# Altium footprint library Fedor's_pcb.PcbLib: 174 footprints (part 13 of 14)
Each footprint in its own frame and in the unit in brackets; x right, y up, seen from the top. Pads: shape width x height; smd on the part's side, far side on the other; paste and mask are expansions set on the pad; w line width, h text height; cw(c..) or ccw(c..) is an arc to the next point about the centre after c.
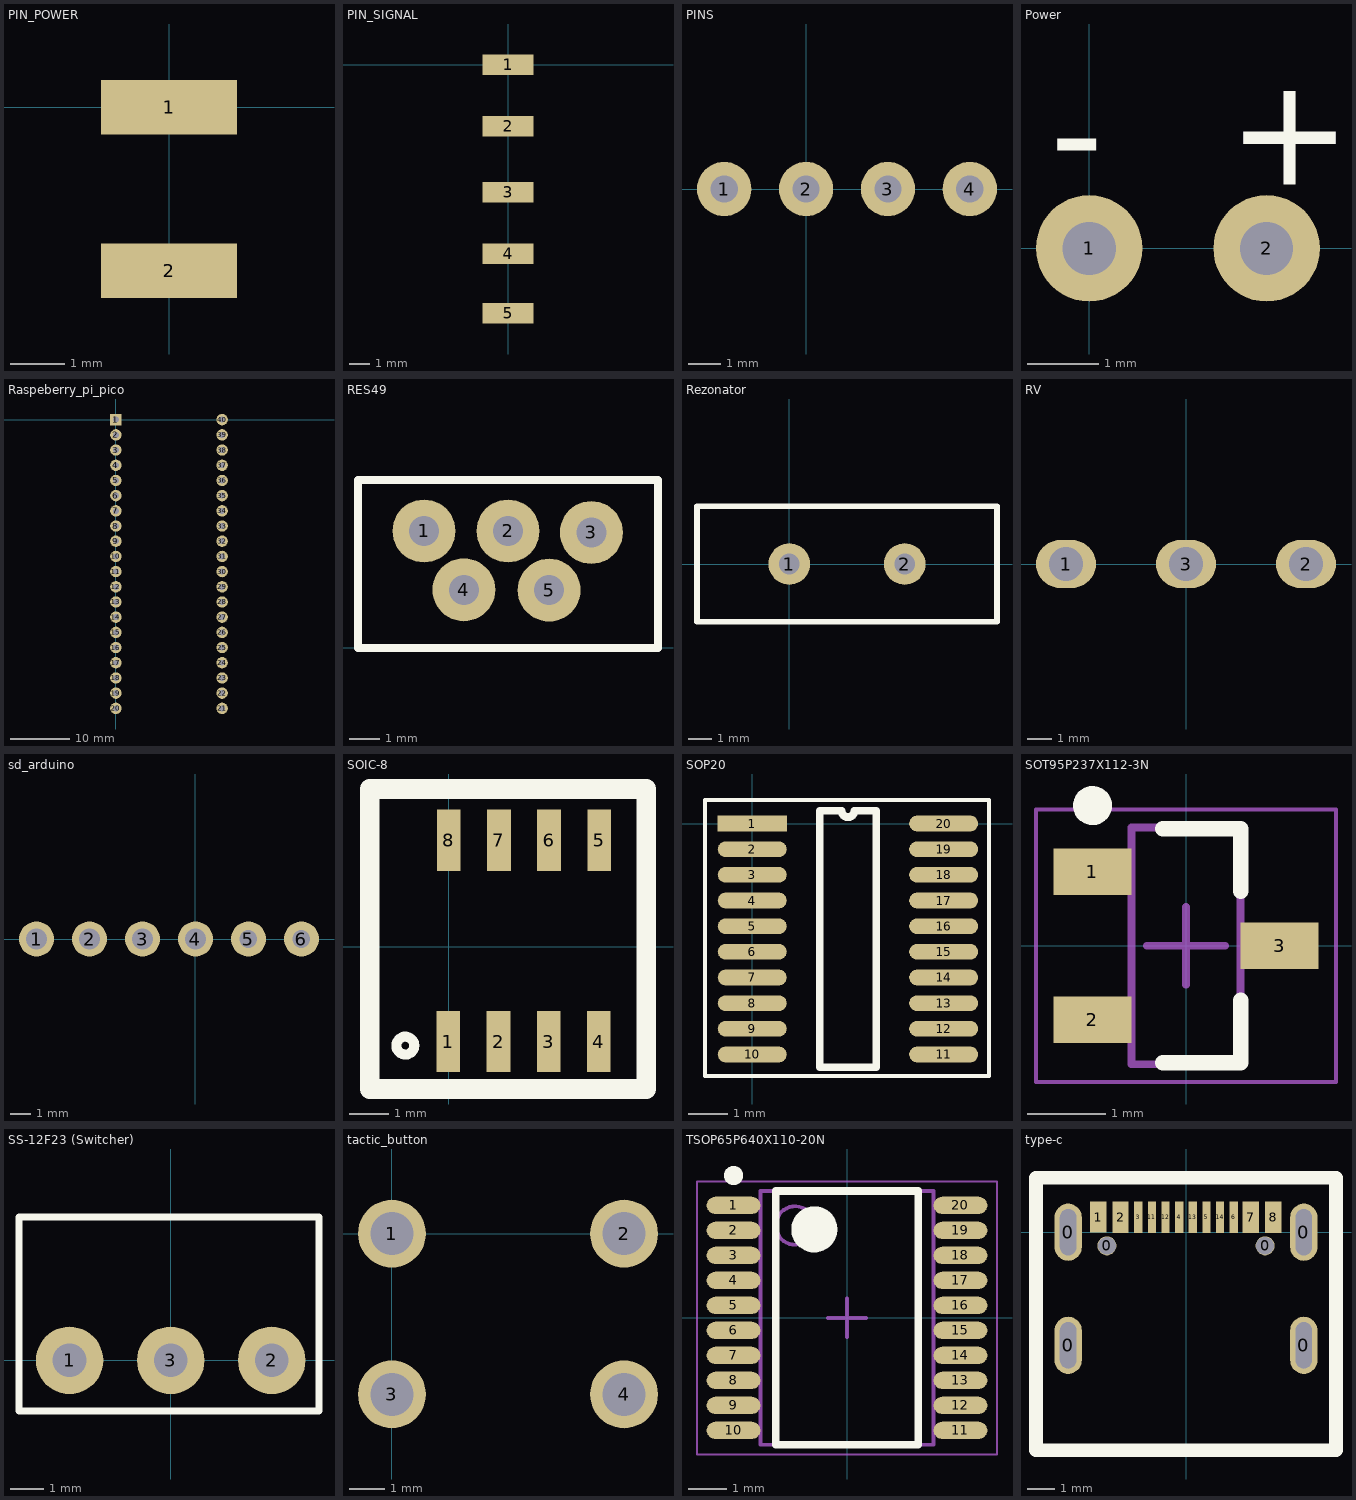
[diagram p12: the footprints below, top view; thin cyan lines are the x and y axes]

## PIN_POWER [mm]
pads (2):
  rect 2.5x1 smd mask+0.05: 1(0,0) 2(0,-3)

## PIN_SIGNAL [mm]
pads (5):
  rect 2.5x1 smd mask+0.05: 1(0,0) 2(0,-3) 3(0,-6.2) 4(0,-9.2) 5(0,-12.1)

## PINS [mm]
pads (4):
  round 1.66 hole 0.83: 1(-2.5,0) 2(0,0) 3(2.5,0) 4(5,0)
3D body "POWER.stp": height 6.9, standoff -2.6, extent -3.75,-1.25 1.25,1.25
3D body "POWER.stp": height 6.9, standoff -2.6, extent 1.25,-1.25 6.25,1.25

## Power [mm]
pads (2):
  round 1.5 hole 0.75: 1(0,0) 2(2.5,0)
Top Overlay:
  text "-" at -0.546,0.892 h1.52
  text "+" at 1.954,0.9 h1.52

## Raspeberry_pi_pico [mm]
pads (40):
  rect 1.9x1.9 hole 1 mask+0.09: 1(0,0)
  round 1.9 hole 1 mask+0.09: 2(0,-2.54) 3(0,-5.08) 4(0,-7.62) 5(0,-10.16) 6(0,-12.7) 7(0,-15.24) 8(0,-17.78) 9(0,-20.32) 10(0,-22.86) 11(0,-25.4) 12(0,-27.94) 13(0,-30.48) 14(0,-33.02) 15(0,-35.56) 16(0,-38.1) 17(0,-40.64) 18(0,-43.18) 19(0,-45.72) 20(0,-48.26) 21(17.78,-48.26) 22(17.78,-45.72) 23(17.78,-43.18) 24(17.78,-40.64) 25(17.78,-38.1) 26(17.78,-35.56) 27(17.78,-33.02) 28(17.78,-30.48) 29(17.78,-27.94) 30(17.78,-25.4) 31(17.78,-22.86) 32(17.78,-20.32) 33(17.78,-17.78) 34(17.78,-15.24) 35(17.78,-12.7) 36(17.78,-10.16) 37(17.78,-7.62) 38(17.78,-5.08) 39(17.78,-2.54) 40(17.78,0)

## RES49 [mm]
pads (5):
  round 2.1 hole 1: 1(3.2,3.9) 2(6,3.9) 3(8.78,3.85) 4(4.53,1.94) 5(7.37,1.93)
Top Overlay:
  lines w0.254: 1,0 11,0 11,5.6 1,5.6 1,0
3D body "RES49.stp": height 16.4, standoff -2.5, extent 0.8,0.35 11.2,5.65

## Rezonator [mm]
pads (2):
  round 1.8 hole 0.9: 1(0,0) 2(5,0)
Top Overlay:
  lines w0.254: -4,-2.5 -4,2.5 9,2.5 9,0.5 9,-2.5 6,-2.5 -1,-2.5 -1.25,-2.5 -4,-2.5
3D body "REZONATOR.stp": height 14.5, standoff -2.5, extent -3.25,-2.65 8.25,2.65

## RV [mm]
pads (3):
  oval 2.5x2 hole 1.4: 1(-5,0) 2(5,0) 3(0,0)

## sd_arduino [mm]
pads (6):
  round 1.68 hole 1: 1(-7.62,0) 2(-5.08,0) 3(-2.54,0) 4(0,0)
  round 1.68 hole 0.84: 5(2.54,0) 6(5.08,0)

## SOIC-8 [mm]
pads (8):
  rect 0.6x1.55 smd mask+0.07: 1(-0.01,-2.4) 2(1.26,-2.4) 3(2.53,-2.4) 4(3.8,-2.4) 5(3.81,2.7) 6(2.54,2.7) 7(1.27,2.7) 8(0,2.7)
Top Overlay:
  circle w0.254: c-1.1,-2.5 r0.226
  lines w0.5: -2,-3.6 -2,4 5,4 5,-3.6 -2,-3.6
3D body "BQ2057CSNTR.step": height 1.75, standoff 0, extent -0.55,-2.9 4.35,3.1

## SOP20 [mm]
pads (20):
  rect 1.75x0.4 smd: 1(0,0)
  oval 1.75x0.4 smd: 2(0,-0.65) 3(0,-1.3) 4(0,-1.95) 5(0,-2.6) 6(0,-3.25) 7(0,-3.9) 8(0,-4.55) 9(0,-5.2) 10(0,-5.85) 11(4.85,-5.85) 12(4.85,-5.2) 13(4.85,-4.55) 14(4.85,-3.9) 15(4.85,-3.25) 16(4.85,-2.6) 17(4.85,-1.95) 18(4.85,-1.3) 19(4.85,-0.65) 20(4.85,0)
Top Overlay:
  lines w0.1: -1.2,-6.4 -1.2,0.6 6,0.6 6,-6.4 -1.2,-6.4
  lines w0.2: 1.71,-6.175 3.14,-6.175 3.14,0.325 2.587,0.325 cw(c2.425,0.325) 2.262,0.325 1.71,0.325 1.71,-6.175

## SOT95P237X112-3N [mm] "SOT23, 3-Leads, Body 2,92x2,37mm, Pitch 0,95mm, IPC Medium Density"
height 1.12
pads (3):
  rect 1x0.6 smd: 1(-1.2,0.95) 2(-1.2,-0.95) 3(1.2,0)
Top Overlay:
  circle w0.25: c-1.2,1.8 r0.125
  lines w0.2: -0.3,-1.5 0.7,-1.5 0.7,-0.7 ; -0.3,1.5 0.7,1.5 0.7,0.7
Mechanical 13:
  lines w0.1: -0.7,-1.52 -0.7,1.52 0.7,1.52 0.7,-1.52 -0.7,-1.52
Mechanical 15:
  lines w0.05: -1.925,-1.75 -1.925,1.75 1.925,1.75 1.925,-1.75 -1.925,-1.75
  lines w0.1: -0.5,0 0.5,0 ; 0,-0.5 0,0.5
3D body "SOT95P237X112-3N.step": height 1.12, standoff 0, extent -1.32,-1.52 1.32,1.52

## SS-12F23 (Switcher) [mm] "Переключатель движковый, 13x 6.0h7, контакты 3P+2P(GND), 0.5А, 50В, SPDT, угловой"
pads (3):
  round 2 hole 1: 1(-3,0) 2(3,0) 3(0,0)
Top Overlay:
  lines w0.2: -4.5,-1.5 4.4,-1.5 4.4,4.25 -4.5,4.25 -4.5,-1.5

## tactic_button [mm]
pads (4):
  round 1.9 hole 1.2 mask+0.09: 1(0,0) 2(6.5,0) 3(0,-4.5) 4(6.5,-4.5)

## TSOP65P640X110-20N [mm] "TSOP, 20-Leads, Body 6,50x4,40mm, Pitch 0,65mm, IPC Medium Density"
height 1.1
pads (20):
  oval 1.4x0.45 smd: 1(-2.95,2.925) 2(-2.95,2.275) 3(-2.95,1.625) 4(-2.95,0.975) 5(-2.95,0.325) 6(-2.95,-0.325) 7(-2.95,-0.975) 8(-2.95,-1.625) 9(-2.95,-2.275) 10(-2.95,-2.925) 11(2.95,-2.925) 12(2.95,-2.275) 13(2.95,-1.625) 14(2.95,-0.975) 15(2.95,-0.325) 16(2.95,0.325) 17(2.95,0.975) 18(2.95,1.625) 19(2.95,2.275) 20(2.95,2.925)
Top Overlay:
  circle w0.25: c-2.95,3.7 r0.125
  circle w0.6: c-0.85,2.3 r0.3
  lines w0.2: -1.85,-3.3 -1.85,3.3 1.85,3.3 1.85,-3.3 -1.85,-3.3
Mechanical 13:
  circle w0.1: c-1.35,2.4 r0.5
  lines w0.1: -2.25,-3.3 -2.25,3.3 2.25,3.3 2.25,-3.3 -2.25,-3.3
Mechanical 15:
  lines w0.05: -3.9,-3.55 -3.9,3.55 3.9,3.55 3.9,-3.55 -3.9,-3.55
  lines w0.1: -0.5,0 0.5,0 ; 0,-0.5 0,0.5
3D body "TSOP65P640X110-20N.step": height 1.1, standoff 0, extent -3.2,-3.3 3.2,3.3

## type-c [mm] "16-pin"
pads (18):
  oval 1x2.1 hole 0.6 slot 1.7 at 90 deg mask+0.05: 0(-4.32,-4.15) 0(-4.32,0) 0(4.32,-4.15) 0(4.32,0)
  round 0.7 hole 0.65 mask+0.04: 0(-2.9,-0.5) 0(2.9,-0.5)
  rect 0.6x1.15 smd mask+0.05: 1(-3.217,0.556) 2(-2.399,0.553) 7(2.381,0.542) 8(3.203,0.544)
  rect 0.3x1.15 smd mask+0.05: 3(-1.75,0.55) 4(-0.25,0.55) 5(0.75,0.55) 6(1.75,0.55) 11(-1.25,0.55) 12(-0.75,0.55) 13(0.25,0.55) 14(1.25,0.55)
Top Overlay:
  lines w0.5: -5.5,-8 -5.5,-4 -5.5,2 5.5,2 5.5,-8 -5.5,-8
3D body "xb-acf008-1r.stp": height 3.03, standoff -0.13, extent -5.87,-7.2 5.47,0.9